# Altium schematic symbol library LTC1668IGTRPBF.SchLib: 2 symbols
Pins are listed as number, name and electrical type; pins without a type are passive.

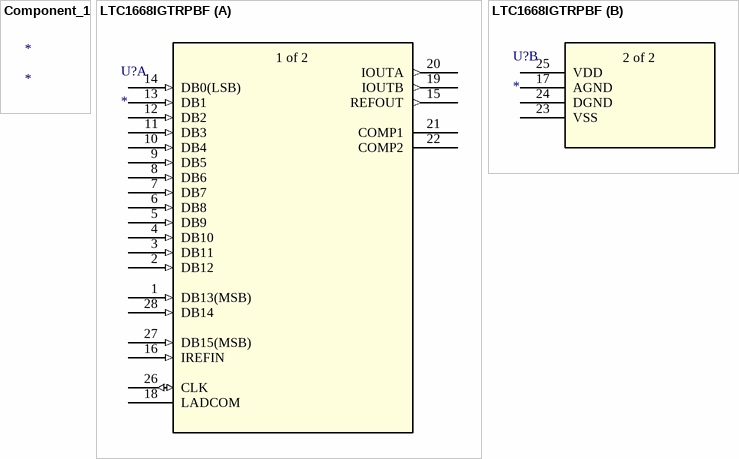
[diagram p0: symbols Component_1 to LTC1668IGTRPBF]

## Component_1
designator *

## LTC1668IGTRPBF
designator U?
No Description Available; Mfr_Name: Analog Devices Inc; RefDes: RefDes; Type: Type
footprint SSOP-28_G_LIT
part A pins: 1 DB13(MSB) (in), 2 DB12 (in), 3 DB11 (in), 4 DB10 (in), 5 DB9 (in), 6 DB8 (in), 7 DB7 (in), 8 DB6 (in), 9 DB5 (in), 10 DB4 (in), 11 DB3 (in), 12 DB2 (in), 13 DB1 (in), 14 DB0(LSB) (in), 15 REFOUT (out), 16 IREFIN (in), 18 LADCOM, 19 IOUTB (out), 20 IOUTA (out), 21 COMP1, 22 COMP2, 26 CLK (io), 27 DB15(MSB) (in), 28 DB14 (in)
part B pins: 17 AGND (power), 23 VSS (power), 24 DGND (power), 25 VDD (power)
part A text: 1 of 2
part B text: 2 of 2